# EAGLE library part LTC3221 (library ltc3221)
LTC3221/ LTC3221-3.3/LTC3221-5 Micropower, Regulated Charge Pump in 2 × 2 DFN The LTC®3221 family are micropower charge pump DC/DC converters that produce a regulated output at up to 60mA. The input voltage range is 1.8V to 5.5V. Extremely low operating current (8µA typical at no load) and low external parts count (one fl ying capacitor and two small bypass capacitors at VIN and VOUT) make them ideally suited for small, battery-powered applications. The LTC3221 family includes fi xed 5V and 3.3V output versions plus an adjustable version. All parts operate as Burst Mode® switched capacitor voltage doublers to achieve ultralow quiescent current. The chips use a controlled current to supply the output and will survive a continuous short-circuit from VOUT to GND. The FB pin of the adjustable LTC3221 can be used to program the desired output voltage. The LTC3221 family is available in a low profi le (0.75mm) 2mm × 2mm 6-pin DFN package. , LT, LTC and LTM are registered trademarks of Linear
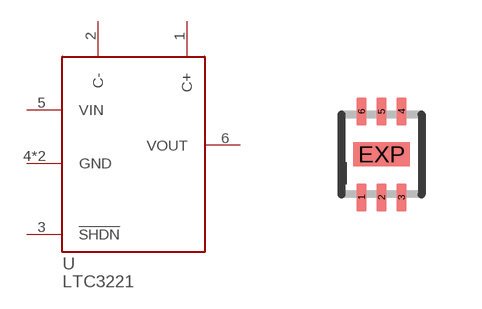
[diagram p0: symbol with the pads of DFN6-2X3; footprint DFN6-2X3]

Designator prefix U

## LTC3221  [DFN6-2X3]
1  C+
2  C-
3  !SHDN
4  GND
5  VIN
6  VOUT
EXP  GND

## Footprint DFN6-2X3 (pad centres in mm)
DCB Package 6-Lead Plastic DFN (2mm × 3mm) Source: http://www.linear.com/pc/downloadDocument.do?navId=H0,C1,C1003,C1042,C1032,C1063,P26952,D16357
smd 0.25 x 0.7: 1 -0.5,-1.075; 2 0,-1.075; 3 0.5,-1.075; 4 0.5,1.075; 5 0,1.075; 6 -0.5,1.075
smd 1.42 x 0.6: EXP 0,0